# Altium integrated library Power_Management_ICs.IntLib: 27 symbols
Pins are listed as number, name and electrical type; pins without a type are passive.

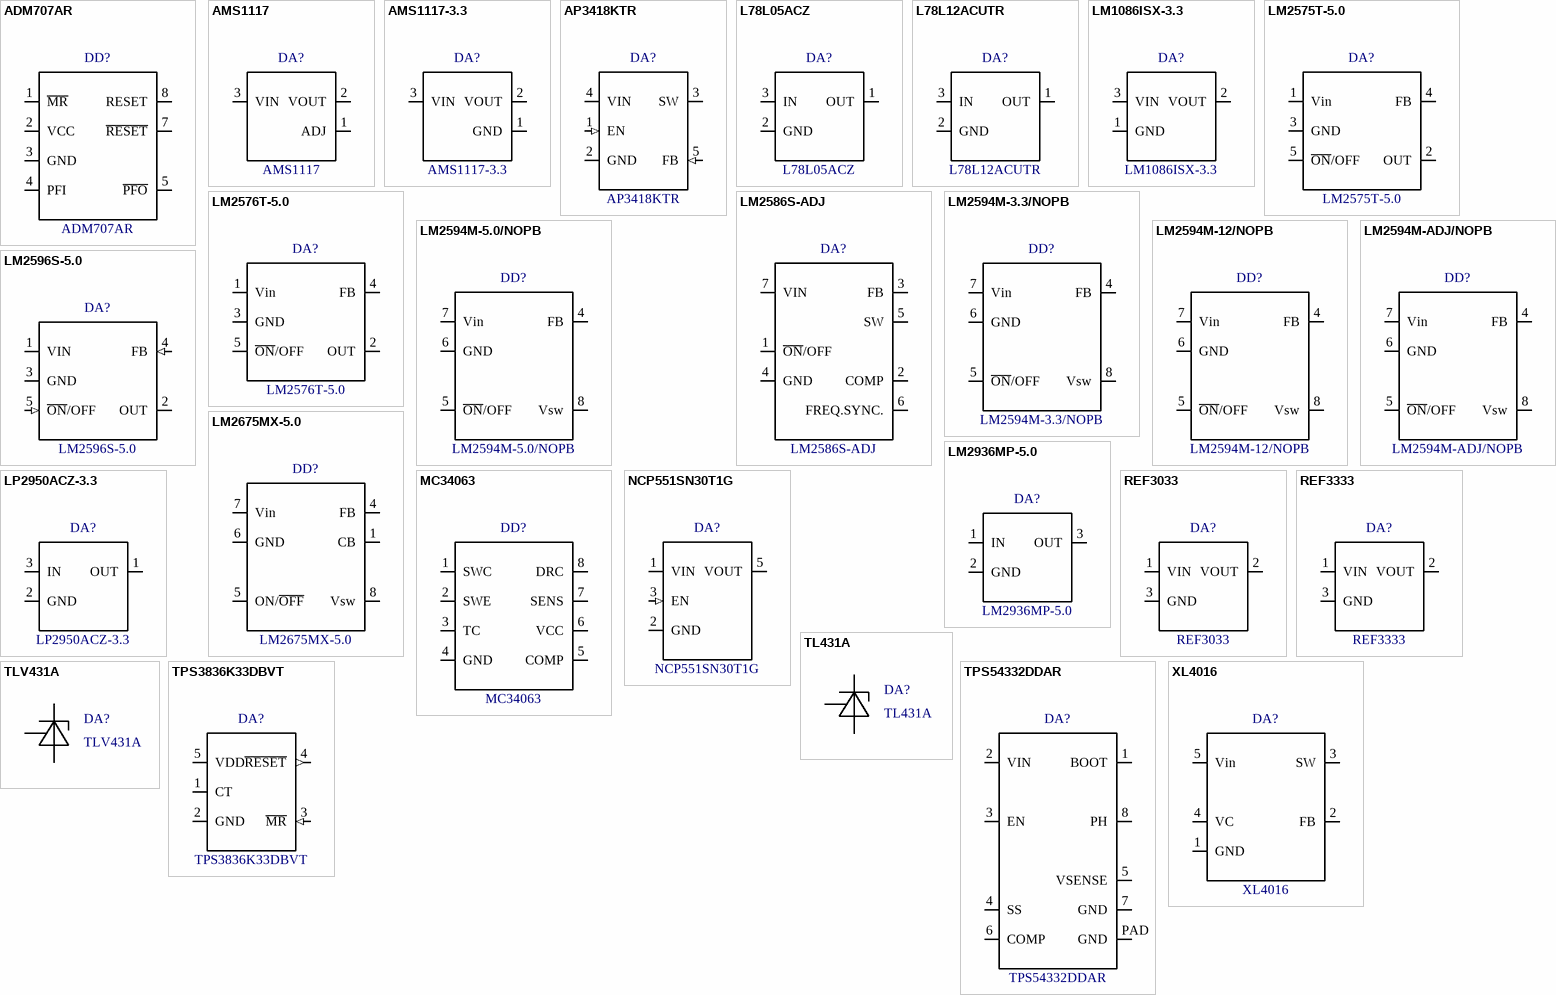
[diagram p0: symbols ADM707AR to XL4016]

## ADM707AR
designator DD?
Low Cost Microprocessor Supervisory Circuit
footprint SOIC-8 (SOIC, 8-Leads, Body 4,90x3,90mm, Pitch 1,27mm, IPC Low Density)
pins: 1 ~{MR}, 2 VCC, 3 GND, 4 PFI, 5 ~{PFO}, 7 ~{RESET}, 8 RESET

## AMS1117
designator DA?
Adjustable 1A Low Dropout Voltage Regulator
footprint SOT-223 (SOT223, 4-Leads, Body 6,50x7,00mm (avg), Pitch 2,30mm, IPC Low Density)
pins: 1 ADJ (power), 2 VOUT (power), 3 VIN (power)

## AMS1117-3.3
designator DA?
Fixed Voltage 3.3V 1A Low Dropout Voltage Regulator
footprint SOT-223 (SOT223, 4-Leads, Body 6,50x7,00mm (avg), Pitch 2,30mm, IPC Low Density)
pins: 1 GND (power), 2 VOUT (power), 3 VIN (power)

## AP3418KTR
designator DA?
Switching Voltage Regulators 1.5A 1.4MHz Sync DC/DC 2.5V to 5.5V
footprint SOT-23-5L (SOT23, 5-Leads, Body 2,92x2,80mm, Pitch 0,95mm, IPC Low Density)
pins: 1 EN (in), 2 GND (power), 3 SW (power), 4 VIN (power), 5 FB (in)

## L78L05ACZ
designator DA?
5.0V 0.1A Positive Linear Voltage Regulator
footprint TO-92 3L
pins: 1 OUT, 2 GND (power), 3 IN

## L78L12ACUTR
designator DA?
100mA Linear Voltage Regulator
footprint SOT-89 (SOT89, 3-Leads, Body 4,50x2,50mm, Pitch 1,50mm, Lead Span 4,1mm, IPC Low Density)
pins: 1 OUT, 2 GND (power), 3 IN

## LM1086ISX-3.3
designator DA?
LDO Voltage Regulator 1.5A
footprint D2PAK 3 LEADS + TAB (TO-263-3) (TO-263-3)
pins: 1 GND (power), 2 VOUT (power), 3 VIN (power)

## LM2575T-5.0
designator DA?
52kHz 1A Step-Down Voltage Regulator
footprint TO-220-5
pins: 1 Vin, 2 OUT, 3 GND, 4 FB, 5 ~{ON}/OFF

## LM2576T-5.0
designator DA?
52kHz 3A Step-Down Voltage Regulator
footprint TO-220-5
pins: 1 Vin, 2 OUT, 3 GND, 4 FB, 5 ~{ON}/OFF

## LM2586S-ADJ
designator DA?
150kHz 0.5A Step-Down Voltage Regulator
footprint D2PAK 7 LEADS + TAB (TO-263-7) (TO-263-7)
pins: 1 ~{ON}/OFF, 2 COMP, 3 FB, 4 GND (power), 5 SW, 6 FREQ.SYNC., 7 VIN (power)

## LM2594M-3.3/NOPB
designator DD?
150kHz 0.5A Step-Down Voltage Regulator
footprint SOIC-8 (SOIC, 8-Leads, Body 4,90x3,90mm, Pitch 1,27mm, IPC Low Density)
pins: 4 FB, 5 ~{ON}/OFF, 6 GND, 7 Vin, 8 Vsw

## LM2594M-5.0/NOPB
designator DD?
150kHz 0.5A Step-Down Voltage Regulator
footprint SOIC-8 (SOIC, 8-Leads, Body 4,90x3,90mm, Pitch 1,27mm, IPC Low Density)
pins: 4 FB, 5 ~{ON}/OFF, 6 GND, 7 Vin, 8 Vsw

## LM2594M-12/NOPB
designator DD?
150kHz 0.5A Step-Down Voltage Regulator
footprint SOIC-8 (SOIC, 8-Leads, Body 4,90x3,90mm, Pitch 1,27mm, IPC Low Density)
pins: 4 FB, 5 ~{ON}/OFF, 6 GND, 7 Vin (power), 8 Vsw

## LM2594M-ADJ/NOPB
designator DD?
150kHz 0.5A Step-Down Voltage Regulator 1.2V to 37V
footprint SOIC-8 (SOIC, 8-Leads, Body 4,90x3,90mm, Pitch 1,27mm, IPC Low Density)
pins: 4 FB, 5 ~{ON}/OFF, 6 GND, 7 Vin (power), 8 Vsw

## LM2596S-5.0
designator DA?
150kHz 3A Step-Down Voltage Regulator
footprint D2PAK 5 LEADS + TAB (TO-263-5) (TO-263-5); pin to pad 3>3+6
pins: 1 VIN (power), 2 OUT (power), 3 GND (power), 4 FB (in), 5 ~{ON}/OFF (in)

## LM2675MX-5.0
designator DD?
6.5V to 40V, 1A Low Component Count Step-Down Regulator
footprint SOIC-8 (SOIC, 8-Leads, Body 4,90x3,90mm, Pitch 1,27mm, IPC Low Density)
pins: 1 CB, 4 FB, 5 ON/~{OFF}, 6 GND, 7 Vin, 8 Vsw

## LM2936MP-5.0
designator DA?
5.0V 0.05A LDO Voltage Regulator
footprint SOT-223 (SOT223, 4-Leads, Body 6,50x7,00mm (avg), Pitch 2,30mm, IPC Low Density)
pins: 1 IN (power), 2 GND (power), 3 OUT (power)

## LP2950ACZ-3.3
designator DA?
100mA Low Power Low Dropout Voltage Regulator
footprint TO-92 3L
pins: 1 OUT, 2 GND (power), 3 IN

## MC34063
designator DD?
Buck / Boost / Inverting Regulator, Switching, 1.5A
footprint SOIC-8 (SOIC, 8-Leads, Body 4,90x3,90mm, Pitch 1,27mm, IPC Low Density)
pins: 1 SWC (oc), 2 SWE (oe), 3 TC, 4 GND (power), 5 COMP, 6 VCC (power), 7 SENS, 8 DRC (oc)

## NCP551SN30T1G
designator DA?
LDO Regulator 3.0V 150 mA Ultra-Low Dropout; Manufacturer: ON Semiconductor; 1Ccode: М00046488; 1Cname: NCP551SN30T1 ONS; 1Cgroup: 01010102; 1Carticle: 35167; Name: Стабилизатор NCP551SN30T1G; 1CfullName: NCP551SN30T1 ONS; PartNumber: NCP551SN30T1G; ComponentLink1Description: DatasheetLink; ComponentLink1URL: *; Case: TSOP-5
footprint TSOP-5
pins: 1 VIN (power), 2 GND (power), 3 EN (in), 5 VOUT (power)

## REF3033
designator DA?
3.3V 25mA 50ppm/C Voltage Reference
footprint SOT-23 (3-Leads, Body 2,90x2,45mm, Pitch 0,95mm, IPC Low Density)
pins: 1 VIN (power), 2 VOUT (power), 3 GND (power)

## REF3333
designator DA?
3.3V 30mA 30ppm/C Voltage Reference
footprint SOT-23 (3-Leads, Body 2,90x2,45mm, Pitch 0,95mm, IPC Low Density)
pins: 1 VIN (power), 2 VOUT (power), 3 GND (power)

## TL431A
designator DA?
Precision Programmable Reference Vref=2.495V
footprint SOT-23 (3-Leads, Body 2,90x2,45mm, Pitch 0,95mm, IPC Low Density)
pins: 1 REF, 2 K, 3 A

## TLV431A
designator DA?
Precision Programmable Reference Vref=1.24V
footprint SOT-23 (3-Leads, Body 2,90x2,45mm, Pitch 0,95mm, IPC Low Density)
pins: 1 REF, 2 K, 3 A

## TPS3836K33DBVT
designator DA?
Supervisory Circuits 220nA w/ 10ms/200ms Select delay time; Manufacturer: Texas Instruments; 1Ccode: М00000578; 1Cgroup: 01010102; 1Carticle: 3508; Name: Супервизор TPS3836K33DBVT; 1Cname: TPS3836K33DBVT; 1CfullName: TPS3836K33DBVT; PartNumber: TPS3836K33DBVT; ComponentLink1Description: DatasheetLink; ComponentLink1URL: https://www.ti.com/lit/ds/symlink/tps3837.pdf; Case: SOT-23-5
footprint TSOP-5
pins: 1 CT, 2 GND (power), 3 ~{MR} (in), 4 ~{RESET} (out), 5 VDD (power)

## TPS54332DDAR
designator DA?
4V to 18V 3A 1MHz synchronous SWIFT step-down converter
footprint SOIC-8 w/PAD (SOIC, 8-Leads, Body 4,90x3,90mm, Pitch 1,27mm, IPC Low Density)
pins: 1 BOOT, 2 VIN (power), 3 EN, 4 SS, 5 VSENSE, 6 COMP, 7 GND (power), 8 PH, PAD GND (power)

## XL4016
designator DA?
180kHz 8A Step-Down Voltage Regulator
footprint TO-220-5
pins: 1 GND, 2 FB, 3 SW, 4 VC, 5 Vin